# EAGLE library part LPS6225-472MLB (library wicked-device)
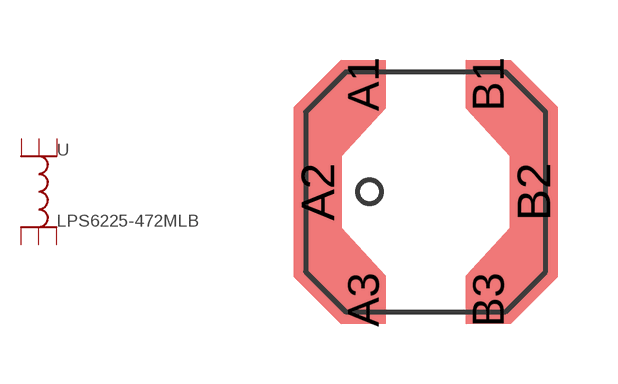
[diagram p22: symbol with the pads of LPS6225; footprint LPS6225]

Designator prefix -

## LPS6225-472MLB  [LPS6225]
A1  A1  pas
A2  A2  pas
A3  A3  pas
B1  B1  pas
B2  B2  pas
B3  B3  pas

## Footprint LPS6225 (pad centres in mm)
smd 1.125 x 1.2: A1 -1.562,2.7; A3 -1.562,-2.7; B1 1.562,2.7; B3 1.562,-2.7
smd 1.2 x 4.25: A2 -2.7,0; B2 2.7,0